# EAGLE library part AD9852ASTZ (library AD9852ASTZ--Symbol-Eagle-80)
CMOS 300 MSPS Complete DDS
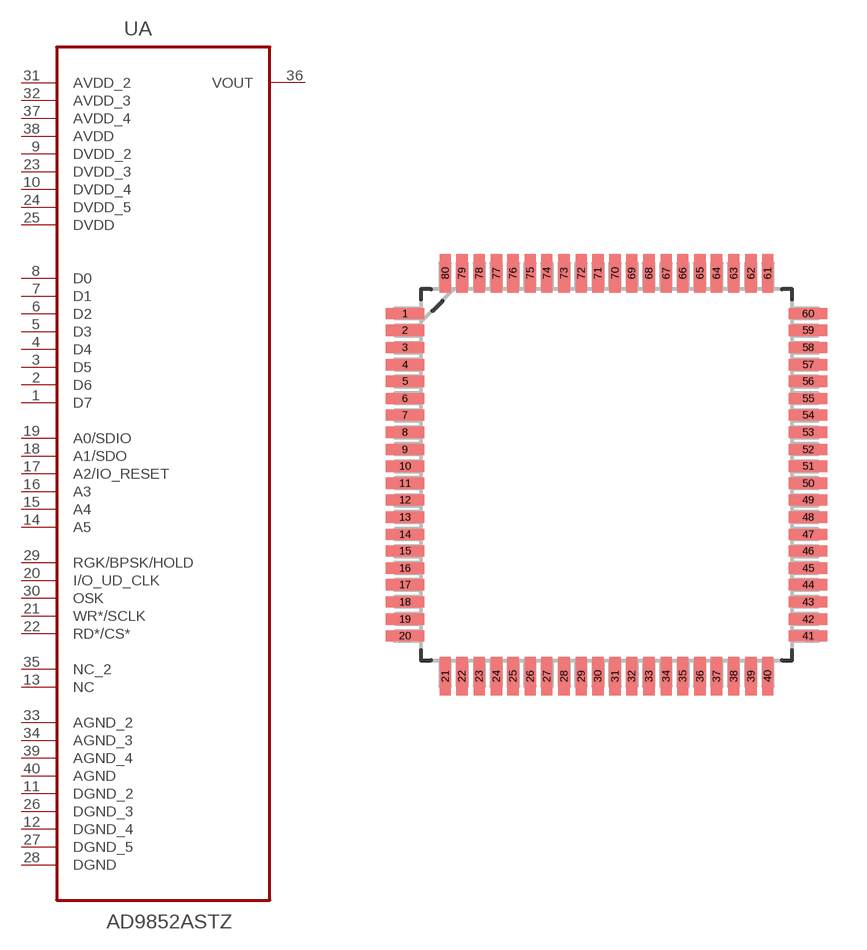
[diagram p0: symbol with the pads of QFP65P1600X1600X160-80N; footprint QFP65P1600X1600X160-80N]

Designator prefix U; gates A=AD9852ASTZ_A B=AD9852ASTZ_B

## AD9852ASTZ (MPN: AD9852ASTZ; OC_FARNELL: 1311366; OC_NEWARK: 59K7485; PACKAGE: LQFP-80; SUPPLIER: Analog Devices)  [QFP65P1600X1600X160-80N]
1  A:D7  in
2  A:D6  in
3  A:D5  in
4  A:D4  in
5  A:D3  in
6  A:D2  in
7  A:D1  in
8  A:D0  in
9  A:DVDD_2  pwr
10  A:DVDD_4  pwr
11  A:DGND_2  pas
12  A:DGND_4  pas
13  A:NC  nc
14  A:A5  in
15  A:A4  in
16  A:A3  in
17  A:A2/IO_RESET
18  A:A1/SDO
19  A:A0/SDIO
20  A:I/O_UD_CLK
21  A:WR*/SCLK
22  A:RD*/CS*  pas
23  A:DVDD_3  pwr
24  A:DVDD_5  pwr
25  A:DVDD  pwr
26  A:DGND_3  pas
27  A:DGND_5  pas
28  A:DGND  pas
29  A:RGK/BPSK/HOLD  pas
30  A:OSK  pas
31  A:AVDD_2  pwr
32  A:AVDD_3  pwr
33  A:AGND_2  pas
34  A:AGND_3  pas
35  A:NC_2  nc
36  A:VOUT  out
37  A:AVDD_4  pwr
38  A:AVDD  pwr
39  A:AGND_4  pas
40  A:AGND  pas
41  B:AGND_7  ?
42  B:VINP  ?
43  B:VINN  ?
44  B:AVDD_5  ?
45  B:AGND_2  ?
46  B:AGND_3  ?
47  B:AGND_5  ?
48  B:IOUT1  ?
49  B:IOUT1*  ?
50  B:AVDD_3  ?
51  B:IOUT2*  ?
52  B:IOUT2  ?
53  B:AGND_4  ?
54  B:AVDD_4  ?
55  B:DACBP  ?
56  B:DAC_RSET  ?
57  B:NC_2  ?
58  B:NC_3  ?
59  B:AGND_6  ?
60  B:AVDD  ?
61  B:PLL_FILTER  ?
62  B:AGND  ?
63  B:NC  ?
64  B:DIFF_CLK_ENABLE  ?
65  B:AVDD_2  ?
66  B:AGND_8  ?
67  B:AGND_9  ?
68  B:REFCLK*  ?
69  B:REFCLK  ?
70  B:S/P_SELECT  ?
71  B:MASTER_RESET  ?
72  B:DGND_2  ?
73  B:DVDD_2  ?
74  B:DVDD_4  ?
75  B:DGND_3  ?
76  B:DGND_4  ?
77  B:DGND_5  ?
78  B:DGND  ?
79  B:DVDD_3  ?
80  B:DVDD  ?

## Footprint QFP65P1600X1600X160-80N (pad centres in mm)
smd 1.473 x 0.432: 1 -7.722,6.172; 2 -7.722,5.537; 3 -7.722,4.877; 4 -7.722,4.216; 5 -7.722,3.581; 6 -7.722,2.921; 7 -7.722,2.286; 8 -7.722,1.626; 9 -7.722,0.965; 10 -7.722,0.33; 11 -7.722,-0.33; 12 -7.722,-0.965; 13 -7.722,-1.626; 14 -7.722,-2.286; 15 -7.722,-2.921; 16 -7.722,-3.581; 17 -7.722,-4.216; 18 -7.722,-4.877; 19 -7.722,-5.537; 20 -7.722,-6.172; 41 7.722,-6.172; 42 7.722,-5.537; 43 7.722,-4.877; 44 7.722,-4.216; 45 7.722,-3.581; 46 7.722,-2.921; 47 7.722,-2.286; 48 7.722,-1.626; 49 7.722,-0.965; 50 7.722,-0.33; 51 7.722,0.33; 52 7.722,0.965; 53 7.722,1.626; 54 7.722,2.286; 55 7.722,2.921; 56 7.722,3.581; 57 7.722,4.216; 58 7.722,4.877; 59 7.722,5.537; 60 7.722,6.172
smd 0.432 x 1.473: 21 -6.172,-7.722; 22 -5.537,-7.722; 23 -4.877,-7.722; 24 -4.216,-7.722; 25 -3.581,-7.722; 26 -2.921,-7.722; 27 -2.286,-7.722; 28 -1.626,-7.722; 29 -0.965,-7.722; 30 -0.33,-7.722; 31 0.33,-7.722; 32 0.965,-7.722; 33 1.626,-7.722; 34 2.286,-7.722; 35 2.921,-7.722; 36 3.581,-7.722; 37 4.216,-7.722; 38 4.877,-7.722; 39 5.537,-7.722; 40 6.172,-7.722; 61 6.172,7.722; 62 5.537,7.722; 63 4.877,7.722; 64 4.216,7.722; 65 3.581,7.722; 66 2.921,7.722; 67 2.286,7.722; 68 1.626,7.722; 69 0.965,7.722; 70 0.33,7.722; 71 -0.33,7.722; 72 -0.965,7.722; 73 -1.626,7.722; 74 -2.286,7.722; 75 -2.921,7.722; 76 -3.581,7.722; 77 -4.216,7.722; 78 -4.877,7.722; 79 -5.537,7.722; 80 -6.172,7.722